# Altium footprint library 10_100BASE-T_SignalTrans.PcbLib: 2 footprints
Each footprint in its own frame and in the unit in brackets; x right, y up, seen from the top. Pads: shape width x height; smd on the part's side, far side on the other; paste and mask are expansions set on the pad; w line width, h text height; cw(c..) or ccw(c..) is an arc to the next point about the centre after c.
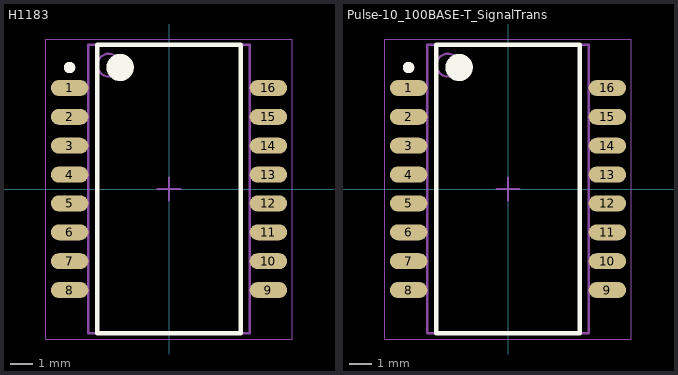
[diagram p0: the footprints below, top view; thin cyan lines are the x and y axes]

## H1183 [mm] "H1183"
height 5.59
pads (16):
  oval 1.65x0.7 smd: 1(-4.375,4.445) 2(-4.375,3.175) 3(-4.375,1.905) 4(-4.375,0.635) 5(-4.375,-0.635) 6(-4.375,-1.905) 7(-4.375,-3.175) 8(-4.375,-4.445) 9(4.375,-4.445) 10(4.375,-3.175) 11(4.375,-1.905) 12(4.375,-0.635) 13(4.375,0.635) 14(4.375,1.905) 15(4.375,3.175) 16(4.375,4.445)
Top Overlay:
  circle w0.25: c-4.375,5.345 r0.125
  circle w0.6: c-2.15,5.35 r0.3
  lines w0.2: -3.15,-6.35 -3.15,6.35 3.15,6.35 3.15,-6.35 -3.15,-6.35
Mechanical 13:
  circle w0.1: c-2.65,5.45 r0.5
  lines w0.1: -3.55,-6.35 -3.55,6.35 3.55,6.35 3.55,-6.35 -3.55,-6.35
Mechanical 15:
  lines w0.05: -5.425,-6.6 -5.425,6.6 5.425,6.6 5.425,-6.6 -5.425,-6.6
  lines w0.1: -0.5,0 0.5,0 ; 0,-0.5 0,0.5
3D body "H1183.step": height 5.59, standoff 0, extent -4.765,-6.35 4.765,6.35

## Pulse-10_100BASE-T_SignalTrans [mm] "H110X, H1121, H1199, HX1188, HX1198, H1302"
height 5.97
pads (16):
  oval 1.65x0.7 smd: 1(-4.375,4.445) 2(-4.375,3.175) 3(-4.375,1.905) 4(-4.375,0.635) 5(-4.375,-0.635) 6(-4.375,-1.905) 7(-4.375,-3.175) 8(-4.375,-4.445) 9(4.375,-4.445) 10(4.375,-3.175) 11(4.375,-1.905) 12(4.375,-0.635) 13(4.375,0.635) 14(4.375,1.905) 15(4.375,3.175) 16(4.375,4.445)
Top Overlay:
  circle w0.6: c-2.15,5.35 r0.3
  circle w0.25: c-4.375,5.345 r0.125
  lines w0.2: -3.15,-6.35 3.15,-6.35 3.15,6.35 -3.15,6.35 -3.15,-6.35
Mechanical 13:
  circle w0.1: c-2.65,5.45 r0.5
  lines w0.1: -3.55,-6.35 3.55,-6.35 3.55,6.35 -3.55,6.35 -3.55,-6.35
Mechanical 15:
  lines w0.05: -5.425,-6.6 5.425,-6.6 5.425,6.6 -5.425,6.6 -5.425,-6.6
  lines w0.1: -0.5,0 0.5,0 ; 0,-0.5 0,0.5
3D body "Pulse-10_100BASE-T_SignalTrans.step": height 5.97, standoff 0, extent -4.765,-6.35 4.765,6.35